# Altium schematic symbol library project.SchLib: 2 symbols
Pins are listed as number, name and electrical type; pins without a type are passive.

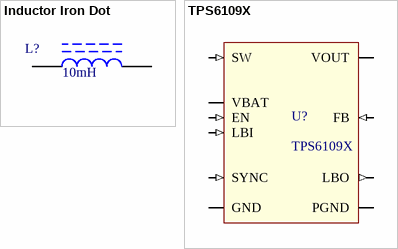
[diagram p0: symbols Inductor Iron Dot to TPS6109X]

## Inductor Iron Dot
designator L?  value 10mH
Magnetic-Core Inductor with Winding Polarity Marking; Published: 24-Mar-1999; LatestRevisionDate: 17-Jul-2002; LatestRevisionNote: Re-released for DXP Platform.; PackageReference: DIODE_SMC; Publisher: Altium Limited; PackageDescription: Diode; 2 Leads
footprint SRU1028A (Bournes SRU1028A Series - Shielded Power Inductors)
pins: 1, 2

## TPS6109X
designator U?
footprint S-PVQFN-N16
pins: 1 VOUT (power), 3 SW (in), 4 SW (in), 5 PGND (power), 6 PGND (power), 7 PGND (power), 8 VBAT (power), 9 LBI (in), 10 SYNC (in), 11 EN (in), 12 LBO (out), 13 GND (power), 14 FB (in), 15 VOUT (power), 16 VOUT (power), PAD (power)